# EAGLE library part ADP5052 (library OPLLib)
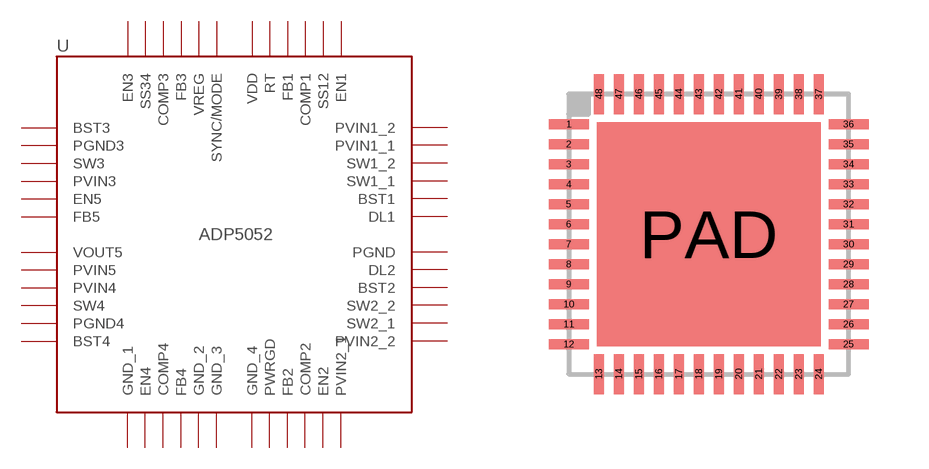
[diagram p3: symbol with the pads of LFSCP48; footprint LFSCP48]

Designator prefix U

## ADP5052 (MPN: ADP5052ACPZ-R7; OC_FARNELL: 2334520)  [LFSCP48]
1  BST3  pas
2  PGND3  pwr
3  SW3  out
4  PVIN3  pwr
5  EN5  in
6  FB5  in
7  VOUT5  pwr
8  PVIN5  pwr
9  PVIN4  pwr
10  SW4  out
11  PGND4  pwr
12  BST4  pas
13  GND_1  pwr
14  EN4  in
15  COMP4  pas
16  FB4  in
17  GND_2  pwr
18  GND_3  pwr
19  GND_4  pwr
20  PWRGD  out
21  FB2  in
22  COMP2  pas
23  EN2  in
24  PVIN2_1  pwr
25  PVIN2_2  pwr
26  SW2_1  out
27  SW2_2  out
28  BST2  pas
29  DL2  out
30  PGND  pwr
31  DL1  out
32  BST1  pas
33  SW1_1  out
34  SW1_2  out
35  PVIN1_1  pwr
36  PVIN1_2  pwr
37  EN1  in
38  SS12  pas
39  COMP1  pas
40  FB1  in
41  RT  pas
42  VDD  pwr
43  SYNC/MODE
44  VREG  out
45  FB3  in
46  COMP3  pas
47  SS34  pas
48  EN3  in
PAD  PGND  pwr

## Footprint LFSCP48 (pad centres in mm)
smd 1 x 0.25: 1 -3.5,2.75; 2 -3.5,2.25; 3 -3.5,1.75; 4 -3.5,1.25; 5 -3.5,0.75; 6 -3.5,0.25; 7 -3.5,-0.25; 8 -3.5,-0.75; 9 -3.5,-1.25; 10 -3.5,-1.75; 11 -3.5,-2.25; 12 -3.5,-2.75; 25 3.5,-2.75; 26 3.5,-2.25; 27 3.5,-1.75; 28 3.5,-1.25; 29 3.5,-0.75; 30 3.5,-0.25; 31 3.5,0.25; 32 3.5,0.75; 33 3.5,1.25; 34 3.5,1.75; 35 3.5,2.25; 36 3.5,2.75
smd 0.25 x 1: 13 -2.75,-3.5; 14 -2.25,-3.5; 15 -1.75,-3.5; 16 -1.25,-3.5; 17 -0.75,-3.5; 18 -0.25,-3.5; 19 0.25,-3.5; 20 0.75,-3.5; 21 1.25,-3.5; 22 1.75,-3.5; 23 2.25,-3.5; 24 2.75,-3.5; 37 2.75,3.5; 38 2.25,3.5; 39 1.75,3.5; 40 1.25,3.5; 41 0.75,3.5; 42 0.25,3.5; 43 -0.25,3.5; 44 -0.75,3.5; 45 -1.25,3.5; 46 -1.75,3.5; 47 -2.25,3.5; 48 -2.75,3.5
smd 5.6 x 5.6: PAD 0,0